# Altium schematic symbol library molex_minifit.SchLib: 12 symbols
Pins are listed as number, name and electrical type; pins without a type are passive.

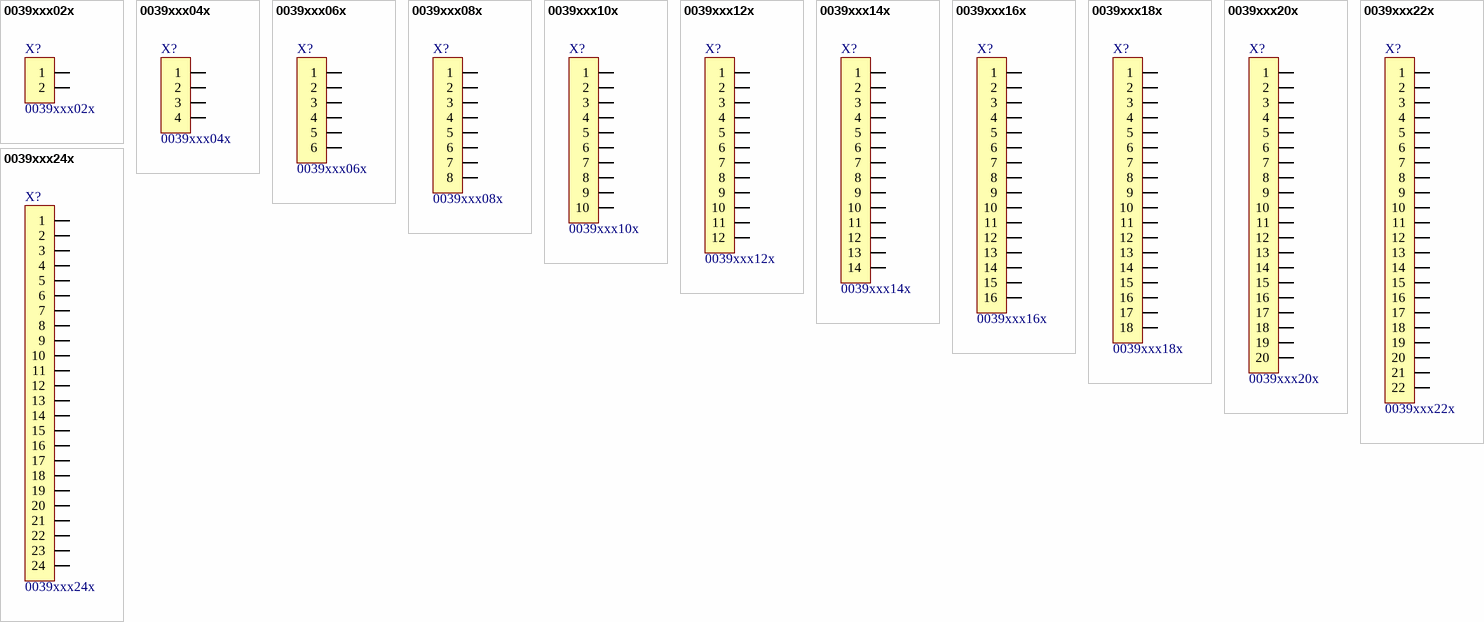
[diagram p0: symbols 0039xxx02x to 0039xxx24x]

## 0039xxx02x
designator X?
CONN HEADER 2POS 4.2MM R/A; Manufacturer: Molex, LLC; Populated: Yes; Contact Length - Post: 0.138" (3.50mm); Material Flammability Rating: UL94 V-2; Number of Positions: 2; Number of Positions Loaded: All; Pitch - Mating: 0.165" (4.20mm); Shrouding: Shrouded - 4 Wall; Style: Board to Cable/Wire; Value: 0039xxx02x; ROHS: Yes; Applications: General Purpose, Industrial, Telecommunications; Category: Connectors, Interconnects; Connector Type: Header; Contact Finish - Mating: Tin; Contact Finish - Post: Tin; Contact Finish Thickness - Mating: 35µin (0.90µm); Contact Finish Thickness - Post: 35µin (0.90µm); Contact Length - Mating: -; Contact Material: Brass; Contact Shape: Square; Contact Type: Male Pin; Current Rating: -; Fastening Type: Locking Ramp; Features: Board Lock; Ingress Protection: -; Insulation Color: Natural; Insulation Material: Polyamide (PA66), Nylon 6/6; Manufacturer Part Number: 0039xxx02x; Mated Stacking Heights: -; Mounting Type: Through Hole; Number of Rows: 2; Operating Temperature: -; Overall Contact Length: -; Packaging: Tray; Part Status: Active; Row Spacing - Mating: 0.165" (4.20mm); Termination: Solder; Voltage Rating: -
footprint 5566-2/39-29-9022
pins: 1, 2

## 0039xxx04x
designator X?
CONN HEADER 4POS 4.2MM R/A; Manufacturer: Molex, LLC; Populated: Yes; Contact Length - Post: 0.138" (3.50mm); Material Flammability Rating: UL94 V-2; Number of Positions: 4; Number of Positions Loaded: All; Pitch - Mating: 0.165" (4.20mm); Shrouding: Shrouded - 4 Wall; Style: Board to Cable/Wire; Value: 0039xxx04x; ROHS: Yes; Applications: General Purpose, Industrial, Telecommunications; Category: Connectors, Interconnects; Connector Type: Header; Contact Finish - Mating: Tin; Contact Finish - Post: Tin; Contact Finish Thickness - Mating: 35µin (0.90µm); Contact Finish Thickness - Post: 35µin (0.90µm); Contact Length - Mating: -; Contact Material: Brass; Contact Shape: Square; Contact Type: Male Pin; Current Rating: -; Fastening Type: Locking Ramp; Features: Board Lock; Ingress Protection: -; Insulation Color: Natural; Insulation Material: Polyamide (PA66), Nylon 6/6; Manufacturer Part Number: 0039xxx04x; Mated Stacking Heights: -; Mounting Type: Through Hole; Number of Rows: 2; Operating Temperature: -; Overall Contact Length: -; Packaging: Tray; Part Status: Active; Row Spacing - Mating: 0.165" (4.20mm); Termination: Solder; Voltage Rating: -
footprint 5566-4/39-29-9042
pins: 1, 2, 3, 4

## 0039xxx06x
designator X?
CONN HEADER 6POS 4.2MM R/A; Manufacturer: Molex, LLC; Populated: Yes; Contact Length - Post: 0.138" (3.50mm); Material Flammability Rating: UL94 V-2; Number of Positions: 6; Number of Positions Loaded: All; Pitch - Mating: 0.165" (4.20mm); Shrouding: Shrouded - 4 Wall; Style: Board to Cable/Wire; Value: 0039xxx06x; ROHS: Yes; Applications: General Purpose, Industrial, Telecommunications; Category: Connectors, Interconnects; Connector Type: Header; Contact Finish - Mating: Tin; Contact Finish - Post: Tin; Contact Finish Thickness - Mating: 35µin (0.90µm); Contact Finish Thickness - Post: 35µin (0.90µm); Contact Length - Mating: -; Contact Material: Brass; Contact Shape: Square; Contact Type: Male Pin; Current Rating: -; Fastening Type: Locking Ramp; Features: Board Lock; Ingress Protection: -; Insulation Color: Natural; Insulation Material: Polyamide (PA66), Nylon 6/6; Manufacturer Part Number: 0039xxx06x; Mated Stacking Heights: -; Mounting Type: Through Hole; Number of Rows: 2; Operating Temperature: -; Overall Contact Length: -; Packaging: Tray; Part Status: Active; Row Spacing - Mating: 0.165" (4.20mm); Termination: Solder; Voltage Rating: -
footprint 5566-6/39-29-9062
pins: 1, 2, 3, 4, 5, 6

## 0039xxx08x
designator X?
CONN HEADER 8POS 4.2MM R/A; Manufacturer: Molex, LLC; Populated: Yes; Contact Length - Post: 0.138" (3.50mm); Material Flammability Rating: UL94 V-2; Number of Positions: 8; Number of Positions Loaded: All; Pitch - Mating: 0.165" (4.20mm); Shrouding: Shrouded - 4 Wall; Style: Board to Cable/Wire; ROHS: Yes; Value: 0039xxx08x; Applications: General Purpose, Industrial, Telecommunications; Category: Connectors, Interconnects; Connector Type: Header; Contact Finish - Mating: Tin; Contact Finish - Post: Tin; Contact Finish Thickness - Mating: 35µin (0.90µm); Contact Finish Thickness - Post: 35µin (0.90µm); Contact Length - Mating: -; Contact Material: Brass; Contact Shape: Square; Contact Type: Male Pin; Current Rating: -; Fastening Type: Locking Ramp; Features: Board Lock; Ingress Protection: -; Insulation Color: Natural; Insulation Material: Polyamide (PA66), Nylon 6/6; Manufacturer Part Number: 0039xxx08x; Mated Stacking Heights: -; Mounting Type: Through Hole; Number of Rows: 2; Operating Temperature: -; Overall Contact Length: -; Packaging: Tray; Part Status: Active; Row Spacing - Mating: 0.165" (4.20mm); Termination: Solder; Voltage Rating: -
footprint 5566-8/39-29-9082
pins: 1, 2, 3, 4, 5, 6, 7, 8

## 0039xxx10x
designator X?
CONN HEADER 10POS 4.2MM R/A; Manufacturer: Molex, LLC; Populated: Yes; Contact Length - Post: 0.138" (3.50mm); Material Flammability Rating: UL94 V-2; Number of Positions: 10; Number of Positions Loaded: All; Pitch - Mating: 0.165" (4.20mm); Shrouding: Shrouded - 4 Wall; Style: Board to Cable/Wire; ROHS: Yes; Value: 0039xxx10x; Applications: General Purpose, Industrial, Telecommunications; Category: Connectors, Interconnects; Connector Type: Header; Contact Finish - Mating: Tin; Contact Finish - Post: Tin; Contact Finish Thickness - Mating: 35µin (0.90µm); Contact Finish Thickness - Post: 35µin (0.90µm); Contact Length - Mating: -; Contact Material: Brass; Contact Shape: Square; Contact Type: Male Pin; Current Rating: -; Fastening Type: Locking Ramp; Features: Board Lock; Ingress Protection: -; Insulation Color: Natural; Insulation Material: Polyamide (PA66), Nylon 6/6; Manufacturer Part Number: 0039xxx10x; Mated Stacking Heights: -; Mounting Type: Through Hole; Number of Rows: 2; Operating Temperature: -; Overall Contact Length: -; Packaging: Tray; Part Status: Active; Row Spacing - Mating: 0.165" (4.20mm); Termination: Solder; Voltage Rating: -
footprint 5566-10/39-29-9102
pins: 1, 2, 3, 4, 5, 6, 7, 8, 9, 10

## 0039xxx12x
designator X?
CONN HEADER 12POS 4.2MM R/A; Manufacturer: Molex, LLC; Populated: Yes; Contact Length - Post: 0.138" (3.50mm); Material Flammability Rating: UL94 V-2; Number of Positions: 12; Number of Positions Loaded: All; Pitch - Mating: 0.165" (4.20mm); Shrouding: Shrouded - 4 Wall; Style: Board to Cable/Wire; ROHS: Yes; Value: 0039xxx12x; Applications: General Purpose, Industrial, Telecommunications; Category: Connectors, Interconnects; Connector Type: Header; Contact Finish - Mating: Tin; Contact Finish - Post: Tin; Contact Finish Thickness - Mating: 35µin (0.90µm); Contact Finish Thickness - Post: 35µin (0.90µm); Contact Length - Mating: -; Contact Material: Brass; Contact Shape: Square; Contact Type: Male Pin; Current Rating: -; Fastening Type: Locking Ramp; Features: Board Lock; Ingress Protection: -; Insulation Color: Natural; Insulation Material: Polyamide (PA66), Nylon 6/6; Manufacturer Part Number: 0039xxx12x; Mated Stacking Heights: -; Mounting Type: Through Hole; Number of Rows: 2; Operating Temperature: -; Overall Contact Length: -; Packaging: Tray; Part Status: Active; Row Spacing - Mating: 0.165" (4.20mm); Termination: Solder; Voltage Rating: -
footprint 5566-12/39-29-9122
footprint 0039301120
footprint 0874271202
pins: 1, 2, 3, 4, 5, 6, 7, 8, 9, 10, 11, 12

## 0039xxx14x
designator X?
CONN HEADER 14POS 4.2MM R/A; Manufacturer: Molex, LLC; Populated: Yes; Contact Length - Post: 0.138" (3.50mm); Material Flammability Rating: UL94 V-2; Number of Positions: 14; Number of Positions Loaded: All; Pitch - Mating: 0.165" (4.20mm); Shrouding: Shrouded - 4 Wall; Style: Board to Cable/Wire; ROHS: Yes; Value: 0039xxx14x; Applications: General Purpose, Industrial, Telecommunications; Category: Connectors, Interconnects; Connector Type: Header; Contact Finish - Mating: Tin; Contact Finish - Post: Tin; Contact Finish Thickness - Mating: 35µin (0.90µm); Contact Finish Thickness - Post: 35µin (0.90µm); Contact Length - Mating: -; Contact Material: Brass; Contact Shape: Square; Contact Type: Male Pin; Current Rating: -; Fastening Type: Locking Ramp; Features: Board Lock; Ingress Protection: -; Insulation Color: Natural; Insulation Material: Polyamide (PA66), Nylon 6/6; Manufacturer Part Number: 0039xxx14x; Mated Stacking Heights: -; Mounting Type: Through Hole; Number of Rows: 2; Operating Temperature: -; Overall Contact Length: -; Packaging: Tray; Part Status: Active; Row Spacing - Mating: 0.165" (4.20mm); Termination: Solder; Voltage Rating: -
footprint 5566-14/39-29-9142
pins: 1, 2, 3, 4, 5, 6, 7, 8, 9, 10, 11, 12, 13, 14

## 0039xxx16x
designator X?
CONN HEADER 16POS 4.2MM R/A; Manufacturer: Molex, LLC; Populated: Yes; Contact Length - Post: 0.138" (3.50mm); Material Flammability Rating: UL94 V-2; Number of Positions: 16; Number of Positions Loaded: All; Pitch - Mating: 0.165" (4.20mm); Shrouding: Shrouded - 4 Wall; Style: Board to Cable/Wire; ROHS: Yes; Value: 0039xxx16x; Applications: General Purpose, Industrial, Telecommunications; Category: Connectors, Interconnects; Connector Type: Header; Contact Finish - Mating: Tin; Contact Finish - Post: Tin; Contact Finish Thickness - Mating: 35µin (0.90µm); Contact Finish Thickness - Post: 35µin (0.90µm); Contact Length - Mating: -; Contact Material: Brass; Contact Shape: Square; Contact Type: Male Pin; Current Rating: -; Fastening Type: Locking Ramp; Features: Board Lock; Ingress Protection: -; Insulation Color: Natural; Insulation Material: Polyamide (PA66), Nylon 6/6; Manufacturer Part Number: 0039xxx16x; Mated Stacking Heights: -; Mounting Type: Through Hole; Number of Rows: 2; Operating Temperature: -; Overall Contact Length: -; Packaging: Tray; Part Status: Active; Row Spacing - Mating: 0.165" (4.20mm); Termination: Solder; Voltage Rating: -
footprint 5566-16/39-29-9162
pins: 1, 2, 3, 4, 5, 6, 7, 8, 9, 10, 11, 12, 13, 14, 15, 16

## 0039xxx18x
designator X?
CONN HEADER 18POS 4.2MM R/A; Manufacturer: Molex, LLC; Populated: Yes; Contact Length - Post: 0.138" (3.50mm); Material Flammability Rating: UL94 V-2; Number of Positions: 18; Number of Positions Loaded: All; Pitch - Mating: 0.165" (4.20mm); Shrouding: Shrouded - 4 Wall; Style: Board to Cable/Wire; ROHS: Yes; Value: 0039xxx18x; Applications: General Purpose, Industrial, Telecommunications; Category: Connectors, Interconnects; Connector Type: Header; Contact Finish - Mating: Tin; Contact Finish - Post: Tin; Contact Finish Thickness - Mating: 35µin (0.90µm); Contact Finish Thickness - Post: 35µin (0.90µm); Contact Length - Mating: -; Contact Material: Brass; Contact Shape: Square; Contact Type: Male Pin; Current Rating: -; Fastening Type: Locking Ramp; Features: Board Lock; Ingress Protection: -; Insulation Color: Natural; Insulation Material: Polyamide (PA66), Nylon 6/6; Manufacturer Part Number: 0039xxx18x; Mated Stacking Heights: -; Mounting Type: Through Hole; Number of Rows: 2; Operating Temperature: -; Overall Contact Length: -; Packaging: Tray; Part Status: Active; Row Spacing - Mating: 0.165" (4.20mm); Termination: Solder; Voltage Rating: -
footprint 5566-18/39-29-9182
pins: 1, 2, 3, 4, 5, 6, 7, 8, 9, 10, 11, 12, 13, 14, 15, 16, 17, 18

## 0039xxx20x
designator X?
CONN HEADER 20POS 4.2MM R/A; Manufacturer: Molex, LLC; Populated: Yes; Contact Length - Post: 0.138" (3.50mm); Material Flammability Rating: UL94 V-2; Number of Positions: 20; Number of Positions Loaded: All; Pitch - Mating: 0.165" (4.20mm); Shrouding: Shrouded - 4 Wall; Style: Board to Cable/Wire; ROHS: Yes; Value: 0039xxx20x; Applications: General Purpose, Industrial, Telecommunications; Category: Connectors, Interconnects; Connector Type: Header; Contact Finish - Mating: Tin; Contact Finish - Post: Tin; Contact Finish Thickness - Mating: 35µin (0.90µm); Contact Finish Thickness - Post: 35µin (0.90µm); Contact Length - Mating: -; Contact Material: Brass; Contact Shape: Square; Contact Type: Male Pin; Current Rating: -; Fastening Type: Locking Ramp; Features: Board Lock; Ingress Protection: -; Insulation Color: Natural; Insulation Material: Polyamide (PA66), Nylon 6/6; Manufacturer Part Number: 0039xxx20x; Mated Stacking Heights: -; Mounting Type: Through Hole; Number of Rows: 2; Operating Temperature: -; Overall Contact Length: -; Packaging: Tray; Part Status: Active; Row Spacing - Mating: 0.165" (4.20mm); Termination: Solder; Voltage Rating: -
footprint 5566-20/39-29-9202
pins: 1, 2, 3, 4, 5, 6, 7, 8, 9, 10, 11, 12, 13, 14, 15, 16, 17, 18, 19, 20

## 0039xxx22x
designator X?
CONN HEADER 22POS 4.2MM R/A; Manufacturer: Molex, LLC; Populated: Yes; Contact Length - Post: 0.138" (3.50mm); Material Flammability Rating: UL94 V-2; Number of Positions: 22; Number of Positions Loaded: All; Pitch - Mating: 0.165" (4.20mm); Shrouding: Shrouded - 4 Wall; Style: Board to Cable/Wire; ROHS: Yes; Value: 0039xxx22x; Applications: General Purpose, Industrial, Telecommunications; Category: Connectors, Interconnects; Connector Type: Header; Contact Finish - Mating: Tin; Contact Finish - Post: Tin; Contact Finish Thickness - Mating: 35µin (0.90µm); Contact Finish Thickness - Post: 35µin (0.90µm); Contact Length - Mating: -; Contact Material: Brass; Contact Shape: Square; Contact Type: Male Pin; Current Rating: -; Fastening Type: Locking Ramp; Features: Board Lock; Ingress Protection: -; Insulation Color: Natural; Insulation Material: Polyamide (PA66), Nylon 6/6; Manufacturer Part Number: 0039xxx22x; Mated Stacking Heights: -; Mounting Type: Through Hole; Number of Rows: 2; Operating Temperature: -; Overall Contact Length: -; Packaging: Tray; Part Status: Active; Row Spacing - Mating: 0.165" (4.20mm); Termination: Solder; Voltage Rating: -
footprint 5566-22/39-29-9222
pins: 1, 2, 3, 4, 5, 6, 7, 8, 9, 10, 11, 12, 13, 14, 15, 16, 17, 18, 19, 20, 21, 22

## 0039xxx24x
designator X?
CONN HEADER 24POS 4.2MM R/A; Manufacturer: Molex, LLC; Populated: Yes; Contact Length - Post: 0.138" (3.50mm); Material Flammability Rating: UL94 V-2; Number of Positions: 24; Number of Positions Loaded: All; Pitch - Mating: 0.165" (4.20mm); Shrouding: Shrouded - 4 Wall; Style: Board to Cable/Wire; ROHS: Yes; Value: 0039xxx24x; Applications: General Purpose, Industrial, Telecommunications; Category: Connectors, Interconnects; Connector Type: Header; Contact Finish - Mating: Tin; Contact Finish - Post: Tin; Contact Finish Thickness - Mating: 35µin (0.90µm); Contact Finish Thickness - Post: 35µin (0.90µm); Contact Length - Mating: -; Contact Material: Brass; Contact Shape: Square; Contact Type: Male Pin; Current Rating: -; Fastening Type: Locking Ramp; Features: Board Lock; Ingress Protection: -; Insulation Color: Natural; Insulation Material: Polyamide (PA66), Nylon 6/6; Manufacturer Part Number: 0039xxx24x; Mated Stacking Heights: -; Mounting Type: Through Hole; Number of Rows: 2; Operating Temperature: -; Overall Contact Length: -; Packaging: Tray; Part Status: Active; Row Spacing - Mating: 0.165" (4.20mm); Termination: Solder; Voltage Rating: -
footprint 5566-24/39-29-9242
pins: 1, 2, 3, 4, 5, 6, 7, 8, 9, 10, 11, 12, 13, 14, 15, 16, 17, 18, 19, 20, 21, 22, 23, 24